# Altium integrated library TI_Logic_Flip-Flop,Latch,Register.IntLib: 2598 symbols (part 97 of 122)
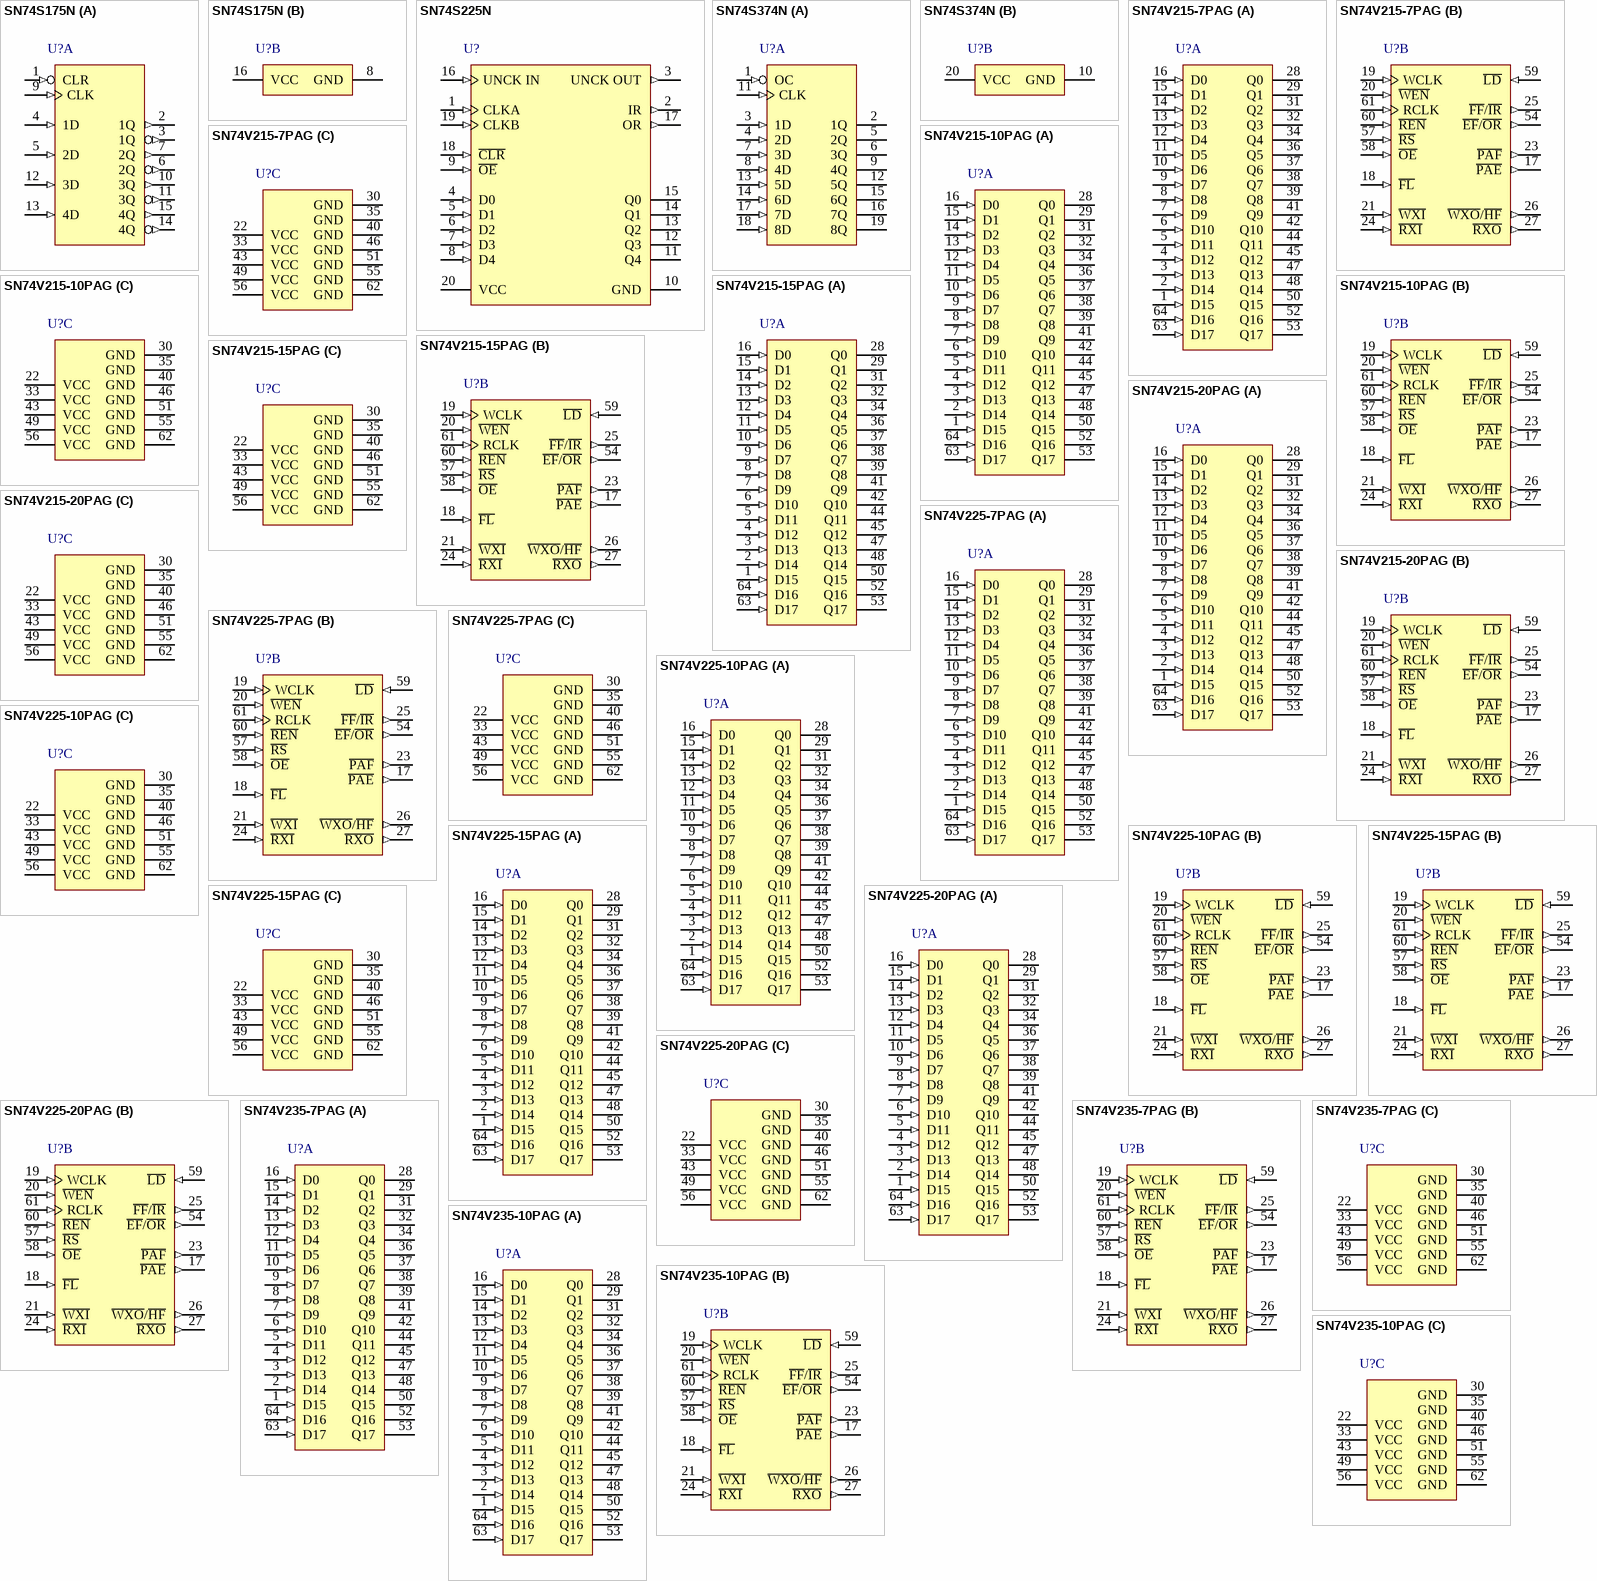
[diagram p235: symbols SN74S175N to SN74V235-10PAG]

## SN74V225-20PAG
designator U?
1024 x 18 Synchronous FIFO Memory, PAG0064A, JEDEC TRAY (10+1); Generic Part Number: SN74V225; Manufacturer: Texas Instruments; PartNumber: SN74V225-20PAG; Vcc range(V): 3.0 to 3.6; Fmax(MHz): 133; Voltage Nodes(V): 3.3; Sync/Async: S; Rating: Catalog; Output Drive(mA): -0.25; DatasheetVersion: SCAS636E; PackageReference: PAG0064A; Depth: 1024; Width: 18; Operating Temperature Range(C): 0 to 70; Code_JEDEC: MS-026; ComponentLink1Description: Manufacturer URL; ComponentLink1URL: http://www.ti.com/; ComponentLink2Description: Datasheet; ComponentLink2URL: http://www.ti.com/lit/ds/symlink/sn74v225.pdf; ComponentLink3Description: Package Specification; ComponentLink3URL: http://www.ti.com/lit/ml/mtqf006a/mtqf006a.pdf
footprint PAG0064A_N (QFP, 64-Leads, Body 10x10mm, Pitch 0.5mm, IPC Medium Density)
footprint PAG0064A_M (QFP, 64-Leads, Body 10x10mm, Pitch 0.5mm, IPC Low Density)
footprint PAG0064A_L (QFP, 64-Leads, Body 10x10mm, Pitch 0.5mm, IPC High Density)
part A pins: 1 D15 (in) "Data inputs. Data inputs for an 18-bit bus.", 2 D14 (in) "Data inputs. Data inputs for an 18-bit bus.", 3 D13 (in) "Data inputs. Data inputs for an 18-bit bus.", 4 D12 (in) "Data inputs. Data inputs for an 18-bit bus.", 5 D11 (in) "Data inputs. Data inputs for an 18-bit bus.", 6 D10 (in) "Data inputs. Data inputs for an 18-bit bus.", 7 D9 (in) "Data inputs. Data inputs for an 18-bit bus.", 8 D8 (in) "Data inputs. Data inputs for an 18-bit bus.", 9 D7 (in) "Data inputs. Data inputs for an 18-bit bus.", 10 D6 (in) "Data inputs. Data inputs for an 18-bit bus.", 11 D5 (in) "Data inputs. Data inputs for an 18-bit bus.", 12 D4 (in) "Data inputs. Data inputs for an 18-bit bus.", 13 D3 (in) "Data inputs. Data inputs for an 18-bit bus.", 14 D2 (in) "Data inputs. Data inputs for an 18-bit bus.", 15 D1 (in) "Data inputs. Data inputs for an 18-bit bus.", 16 D0 (in) "Data inputs. Data inputs for an 18-bit bus.", 28 Q0 (hiz) "Data outputs. Data outputs for an 18-bit bus.", 29 Q1 (hiz) "Data outputs. Data outputs for an 18-bit bus.", 31 Q2 (hiz) "Data outputs. Data outputs for an 18-bit bus.", 32 Q3 (hiz) "Data outputs. Data outputs for an 18-bit bus.", 34 Q4 (hiz) "Data outputs. Data outputs for an 18-bit bus.", 36 Q5 (hiz) "Data outputs. Data outputs for an 18-bit bus.", 37 Q6 (hiz) "Data outputs. Data outputs for an 18-bit bus.", 38 Q7 (hiz) "Data outputs. Data outputs for an 18-bit bus.", 39 Q8 (hiz) "Data outputs. Data outputs for an 18-bit bus.", 41 Q9 (hiz) "Data outputs. Data outputs for an 18-bit bus.", 42 Q10 (hiz) "Data outputs. Data outputs for an 18-bit bus.", 44 Q11 (hiz) "Data outputs. Data outputs for an 18-bit bus.", 45 Q12 (hiz) "Data outputs. Data outputs for an 18-bit bus.", 47 Q13 (hiz) "Data outputs. Data outputs for an 18-bit bus.", 48 Q14 (hiz) "Data outputs. Data outputs for an 18-bit bus.", 50 Q15 (hiz) "Data outputs. Data outputs for an 18-bit bus.", 52 Q16 (hiz) "Data outputs. Data outputs for an 18-bit bus.", 53 Q17 (hiz) "Data outputs. Data outputs for an 18-bit bus.", 63 D17 (in) "Data inputs. Data inputs for an 18-bit bus.", 64 D16 (in) "Data inputs. Data inputs for an 18-bit bus."
part B pins: 17 ~{PAE} (out) "Programable almost-empty flag. When P\A\E\ is low, the FIFO is almost empty, based on the offset programmed into the FIFO. The default offset at reset is 63 from empty for SN74V215, and 127 from empty for SN74V225, SN74V235, (See Datasheet)", 18 ~{FL} (in) "Mode selection. In the single-device or width-expansion configuration, F\L\, together with W\X\I\ and R\X\I\, determines if the mode is standard mode or first-word fall-through (FWFT) mode, as well as whether the (See Datasheet)", 19 WCLK (in) "Write clock. When W\E\N\ is low, data is written into the FIFO on a low-to-high transition of WCLK if the FIFO is not full.", 20 ~{WEN} (in) "Write enable. When W\E\N\ is low, data is written into the FIFO on every low-to-high transition of WCLK. When W\E\N\ is high, the FIFO holds the previous data. Data is not written into the FIFO if F\F\ is low.", 21 ~{WXI} (in) "Width expansion. In the single-device or width-expansion configuration, W\X\I\, together with F\L\ and R\X\I\, determines if the mode is standard mode or FWFT mode, as well as whether the P\A\E\/P\A\F\ flags are synchronous (See Datasheet)", 23 ~{PAF} (out) "Programable almost-full flag. When P\A\F\ is low, the FIFO is almost full, based on the offset programmed into the FIFO. The default offset at reset is 63 from full for SN74V215, and 127 from full for SN74V225, SN74V235, and (See Datasheet)", 24 ~{RXI} (in) "Read expansion. In the single-device or width-expansion configuration, R\X\I\, together with F\L\ and W\X\I\, determines if the mode is standard mode or FWFT mode, as well as whether the P\A\E\/P\A\F\ flags are synchronous (See Datasheet)", 25 ~{FF}/~{IR} (out) "Memory-full/space-available flag. In the standard mode, the F\F\ function is selected. F\F\ indicates whether the FIFO memory is full. In the FWFT mode, the I\R\ function is selected. I\R\ indicates whether there is space (See Datasheet)", 26 ~{WXO}/~{HF} (out) "Half-full flag. In the single-device or width-expansion configuration, the device is more than half full when H\F\ is low. In the depth-expansion configuration, a pulse is sent from W\X\O\ to W\X\I\ of the next device when (See Datasheet)", 27 ~{RXO} (out) "Last-location-read flag. In the depth-expansion configuration, a pulse is sent from R\X\O\ to R\X\I\ of the next device when the last location in the FIFO is read.", 54 ~{EF}/~{OR} (out) "Memory-empty/valid-data-available flag. In the standard mode, the E\F\ function is selected. E\F\ indicates whether the FIFO memory is empty. In FWFT mode, the O\R\ function is selected. O\R\ indicates whether there is valid (See Datasheet)", 57 ~{RS} (in) "Reset. When R\S\ is set low, internal read and write pointers are set to the first location of the RAM array, F\F\ and P\A\F\ go high, and P\A\E\ and E\F\ go low. A reset is required before an initial write after power up", 58 ~{OE} (in) "Output enable. When O\E\ is low, the data output bus is active. If O\E\ is high, the output data bus is in the high-impedance state.", 59 ~{LD} (in) "Read/write control. When L\D\ is low, data on the inputs D0-D11 is written to the offset and depth registers on the low-to-high transition of the WCLK, when W\E\N\ is low. When L\D\ is low, data on the outputs Q0-Q11 is read (See Datasheet)", 60 ~{REN} (in) "Read enable. When R\E\N\ is low, data is read from the FIFO on every low-to-high transition of RCLK. When R\E\N\ is high, the output register holds the previous data. Data is not read from the FIFO if E\F\ is low.", 61 RCLK (in) "Read clock. When R\E\N\ is low, data is read from the FIFO on a low-to-high transition of RCLK, if the FIFO is not empty"
part C pins: 22 VCC (power) "Supply voltage. +3.3-V power-supply pins.", 30 GND (power) "Ground", 33 VCC (power) "Supply voltage. +3.3-V power-supply pins.", 35 GND (power) "Ground", 40 GND (power) "Ground", 43 VCC (power) "Supply voltage. +3.3-V power-supply pins.", 46 GND (power) "Ground", 49 VCC (power) "Supply voltage. +3.3-V power-supply pins.", 51 GND (power) "Ground", 55 GND (power) "Ground", 56 VCC (power) "Supply voltage. +3.3-V power-supply pins.", 62 GND (power) "Ground"

## SN74V235-7PAG
designator U?
2048 x 18 Synchronous FIFO Memory, PAG0064A, JEDEC TRAY (10+1); Generic Part Number: SN74V235; Manufacturer: Texas Instruments; PartNumber: SN74V235-7PAG; Vcc range(V): 3.0 to 3.6; Fmax(MHz): 133; Voltage Nodes(V): 3.3; Sync/Async: S; Rating: Catalog; Output Drive(mA): -0.25; DatasheetVersion: SCAS636E; PackageReference: PAG0064A; Depth: 2048; Width: 18; Operating Temperature Range(C): 0 to 70; Code_JEDEC: MS-026; ComponentLink1Description: Manufacturer URL; ComponentLink1URL: http://www.ti.com/; ComponentLink2Description: Datasheet; ComponentLink2URL: http://www.ti.com/lit/ds/symlink/sn74v235.pdf; ComponentLink3Description: Package Specification; ComponentLink3URL: http://www.ti.com/lit/ml/mtqf006a/mtqf006a.pdf
footprint PAG0064A_N (QFP, 64-Leads, Body 10x10mm, Pitch 0.5mm, IPC Medium Density)
footprint PAG0064A_M (QFP, 64-Leads, Body 10x10mm, Pitch 0.5mm, IPC Low Density)
footprint PAG0064A_L (QFP, 64-Leads, Body 10x10mm, Pitch 0.5mm, IPC High Density)
part A pins: 1 D15 (in) "Data inputs. Data inputs for an 18-bit bus.", 2 D14 (in) "Data inputs. Data inputs for an 18-bit bus.", 3 D13 (in) "Data inputs. Data inputs for an 18-bit bus.", 4 D12 (in) "Data inputs. Data inputs for an 18-bit bus.", 5 D11 (in) "Data inputs. Data inputs for an 18-bit bus.", 6 D10 (in) "Data inputs. Data inputs for an 18-bit bus.", 7 D9 (in) "Data inputs. Data inputs for an 18-bit bus.", 8 D8 (in) "Data inputs. Data inputs for an 18-bit bus.", 9 D7 (in) "Data inputs. Data inputs for an 18-bit bus.", 10 D6 (in) "Data inputs. Data inputs for an 18-bit bus.", 11 D5 (in) "Data inputs. Data inputs for an 18-bit bus.", 12 D4 (in) "Data inputs. Data inputs for an 18-bit bus.", 13 D3 (in) "Data inputs. Data inputs for an 18-bit bus.", 14 D2 (in) "Data inputs. Data inputs for an 18-bit bus.", 15 D1 (in) "Data inputs. Data inputs for an 18-bit bus.", 16 D0 (in) "Data inputs. Data inputs for an 18-bit bus.", 28 Q0 (hiz) "Data outputs. Data outputs for an 18-bit bus.", 29 Q1 (hiz) "Data outputs. Data outputs for an 18-bit bus.", 31 Q2 (hiz) "Data outputs. Data outputs for an 18-bit bus.", 32 Q3 (hiz) "Data outputs. Data outputs for an 18-bit bus.", 34 Q4 (hiz) "Data outputs. Data outputs for an 18-bit bus.", 36 Q5 (hiz) "Data outputs. Data outputs for an 18-bit bus.", 37 Q6 (hiz) "Data outputs. Data outputs for an 18-bit bus.", 38 Q7 (hiz) "Data outputs. Data outputs for an 18-bit bus.", 39 Q8 (hiz) "Data outputs. Data outputs for an 18-bit bus.", 41 Q9 (hiz) "Data outputs. Data outputs for an 18-bit bus.", 42 Q10 (hiz) "Data outputs. Data outputs for an 18-bit bus.", 44 Q11 (hiz) "Data outputs. Data outputs for an 18-bit bus.", 45 Q12 (hiz) "Data outputs. Data outputs for an 18-bit bus.", 47 Q13 (hiz) "Data outputs. Data outputs for an 18-bit bus.", 48 Q14 (hiz) "Data outputs. Data outputs for an 18-bit bus.", 50 Q15 (hiz) "Data outputs. Data outputs for an 18-bit bus.", 52 Q16 (hiz) "Data outputs. Data outputs for an 18-bit bus.", 53 Q17 (hiz) "Data outputs. Data outputs for an 18-bit bus.", 63 D17 (in) "Data inputs. Data inputs for an 18-bit bus.", 64 D16 (in) "Data inputs. Data inputs for an 18-bit bus."
part B pins: 17 ~{PAE} (out) "Programable almost-empty flag. When P\A\E\ is low, the FIFO is almost empty, based on the offset programmed into the FIFO. The default offset at reset is 63 from empty for SN74V215, and 127 from empty for SN74V225, SN74V235, (See Datasheet)", 18 ~{FL} (in) "Mode selection. In the single-device or width-expansion configuration, F\L\, together with W\X\I\ and R\X\I\, determines if the mode is standard mode or first-word fall-through (FWFT) mode, as well as whether the (See Datasheet)", 19 WCLK (in) "Write clock. When W\E\N\ is low, data is written into the FIFO on a low-to-high transition of WCLK if the FIFO is not full.", 20 ~{WEN} (in) "Write enable. When W\E\N\ is low, data is written into the FIFO on every low-to-high transition of WCLK. When W\E\N\ is high, the FIFO holds the previous data. Data is not written into the FIFO if F\F\ is low.", 21 ~{WXI} (in) "Width expansion. In the single-device or width-expansion configuration, W\X\I\, together with F\L\ and R\X\I\, determines if the mode is standard mode or FWFT mode, as well as whether the P\A\E\/P\A\F\ flags are synchronous (See Datasheet)", 23 ~{PAF} (out) "Programable almost-full flag. When P\A\F\ is low, the FIFO is almost full, based on the offset programmed into the FIFO. The default offset at reset is 63 from full for SN74V215, and 127 from full for SN74V225, SN74V235, and (See Datasheet)", 24 ~{RXI} (in) "Read expansion. In the single-device or width-expansion configuration, R\X\I\, together with F\L\ and W\X\I\, determines if the mode is standard mode or FWFT mode, as well as whether the P\A\E\/P\A\F\ flags are synchronous (See Datasheet)", 25 ~{FF}/~{IR} (out) "Memory-full/space-available flag. In the standard mode, the F\F\ function is selected. F\F\ indicates whether the FIFO memory is full. In the FWFT mode, the I\R\ function is selected. I\R\ indicates whether there is space (See Datasheet)", 26 ~{WXO}/~{HF} (out) "Half-full flag. In the single-device or width-expansion configuration, the device is more than half full when H\F\ is low. In the depth-expansion configuration, a pulse is sent from W\X\O\ to W\X\I\ of the next device when (See Datasheet)", 27 ~{RXO} (out) "Last-location-read flag. In the depth-expansion configuration, a pulse is sent from R\X\O\ to R\X\I\ of the next device when the last location in the FIFO is read.", 54 ~{EF}/~{OR} (out) "Memory-empty/valid-data-available flag. In the standard mode, the E\F\ function is selected. E\F\ indicates whether the FIFO memory is empty. In FWFT mode, the O\R\ function is selected. O\R\ indicates whether there is valid (See Datasheet)", 57 ~{RS} (in) "Reset. When R\S\ is set low, internal read and write pointers are set to the first location of the RAM array, F\F\ and P\A\F\ go high, and P\A\E\ and E\F\ go low. A reset is required before an initial write after power up", 58 ~{OE} (in) "Output enable. When O\E\ is low, the data output bus is active. If O\E\ is high, the output data bus is in the high-impedance state.", 59 ~{LD} (in) "Read/write control. When L\D\ is low, data on the inputs D0-D11 is written to the offset and depth registers on the low-to-high transition of the WCLK, when W\E\N\ is low. When L\D\ is low, data on the outputs Q0-Q11 is read (See Datasheet)", 60 ~{REN} (in) "Read enable. When R\E\N\ is low, data is read from the FIFO on every low-to-high transition of RCLK. When R\E\N\ is high, the output register holds the previous data. Data is not read from the FIFO if E\F\ is low.", 61 RCLK (in) "Read clock. When R\E\N\ is low, data is read from the FIFO on a low-to-high transition of RCLK, if the FIFO is not empty"
part C pins: 22 VCC (power) "Supply voltage. +3.3-V power-supply pins.", 30 GND (power) "Ground", 33 VCC (power) "Supply voltage. +3.3-V power-supply pins.", 35 GND (power) "Ground", 40 GND (power) "Ground", 43 VCC (power) "Supply voltage. +3.3-V power-supply pins.", 46 GND (power) "Ground", 49 VCC (power) "Supply voltage. +3.3-V power-supply pins.", 51 GND (power) "Ground", 55 GND (power) "Ground", 56 VCC (power) "Supply voltage. +3.3-V power-supply pins.", 62 GND (power) "Ground"

## SN74V235-10PAG
designator U?
2048 x 18 Synchronous FIFO Memory, PAG0064A, JEDEC TRAY (10+1); Generic Part Number: SN74V235; Manufacturer: Texas Instruments; PartNumber: SN74V235-10PAG; Vcc range(V): 3.0 to 3.6; Fmax(MHz): 133; Voltage Nodes(V): 3.3; Sync/Async: S; Rating: Catalog; Output Drive(mA): -0.25; DatasheetVersion: SCAS636E; PackageReference: PAG0064A; Depth: 2048; Width: 18; Operating Temperature Range(C): 0 to 70; Code_JEDEC: MS-026; ComponentLink1Description: Manufacturer URL; ComponentLink1URL: http://www.ti.com/; ComponentLink2Description: Datasheet; ComponentLink2URL: http://www.ti.com/lit/ds/symlink/sn74v235.pdf; ComponentLink3Description: Package Specification; ComponentLink3URL: http://www.ti.com/lit/ml/mtqf006a/mtqf006a.pdf
footprint PAG0064A_N (QFP, 64-Leads, Body 10x10mm, Pitch 0.5mm, IPC Medium Density)
footprint PAG0064A_M (QFP, 64-Leads, Body 10x10mm, Pitch 0.5mm, IPC Low Density)
footprint PAG0064A_L (QFP, 64-Leads, Body 10x10mm, Pitch 0.5mm, IPC High Density)
part A pins: 1 D15 (in) "Data inputs. Data inputs for an 18-bit bus.", 2 D14 (in) "Data inputs. Data inputs for an 18-bit bus.", 3 D13 (in) "Data inputs. Data inputs for an 18-bit bus.", 4 D12 (in) "Data inputs. Data inputs for an 18-bit bus.", 5 D11 (in) "Data inputs. Data inputs for an 18-bit bus.", 6 D10 (in) "Data inputs. Data inputs for an 18-bit bus.", 7 D9 (in) "Data inputs. Data inputs for an 18-bit bus.", 8 D8 (in) "Data inputs. Data inputs for an 18-bit bus.", 9 D7 (in) "Data inputs. Data inputs for an 18-bit bus.", 10 D6 (in) "Data inputs. Data inputs for an 18-bit bus.", 11 D5 (in) "Data inputs. Data inputs for an 18-bit bus.", 12 D4 (in) "Data inputs. Data inputs for an 18-bit bus.", 13 D3 (in) "Data inputs. Data inputs for an 18-bit bus.", 14 D2 (in) "Data inputs. Data inputs for an 18-bit bus.", 15 D1 (in) "Data inputs. Data inputs for an 18-bit bus.", 16 D0 (in) "Data inputs. Data inputs for an 18-bit bus.", 28 Q0 (hiz) "Data outputs. Data outputs for an 18-bit bus.", 29 Q1 (hiz) "Data outputs. Data outputs for an 18-bit bus.", 31 Q2 (hiz) "Data outputs. Data outputs for an 18-bit bus.", 32 Q3 (hiz) "Data outputs. Data outputs for an 18-bit bus.", 34 Q4 (hiz) "Data outputs. Data outputs for an 18-bit bus.", 36 Q5 (hiz) "Data outputs. Data outputs for an 18-bit bus.", 37 Q6 (hiz) "Data outputs. Data outputs for an 18-bit bus.", 38 Q7 (hiz) "Data outputs. Data outputs for an 18-bit bus.", 39 Q8 (hiz) "Data outputs. Data outputs for an 18-bit bus.", 41 Q9 (hiz) "Data outputs. Data outputs for an 18-bit bus.", 42 Q10 (hiz) "Data outputs. Data outputs for an 18-bit bus.", 44 Q11 (hiz) "Data outputs. Data outputs for an 18-bit bus.", 45 Q12 (hiz) "Data outputs. Data outputs for an 18-bit bus.", 47 Q13 (hiz) "Data outputs. Data outputs for an 18-bit bus.", 48 Q14 (hiz) "Data outputs. Data outputs for an 18-bit bus.", 50 Q15 (hiz) "Data outputs. Data outputs for an 18-bit bus.", 52 Q16 (hiz) "Data outputs. Data outputs for an 18-bit bus.", 53 Q17 (hiz) "Data outputs. Data outputs for an 18-bit bus.", 63 D17 (in) "Data inputs. Data inputs for an 18-bit bus.", 64 D16 (in) "Data inputs. Data inputs for an 18-bit bus."
part B pins: 17 ~{PAE} (out) "Programable almost-empty flag. When P\A\E\ is low, the FIFO is almost empty, based on the offset programmed into the FIFO. The default offset at reset is 63 from empty for SN74V215, and 127 from empty for SN74V225, SN74V235, (See Datasheet)", 18 ~{FL} (in) "Mode selection. In the single-device or width-expansion configuration, F\L\, together with W\X\I\ and R\X\I\, determines if the mode is standard mode or first-word fall-through (FWFT) mode, as well as whether the (See Datasheet)", 19 WCLK (in) "Write clock. When W\E\N\ is low, data is written into the FIFO on a low-to-high transition of WCLK if the FIFO is not full.", 20 ~{WEN} (in) "Write enable. When W\E\N\ is low, data is written into the FIFO on every low-to-high transition of WCLK. When W\E\N\ is high, the FIFO holds the previous data. Data is not written into the FIFO if F\F\ is low.", 21 ~{WXI} (in) "Width expansion. In the single-device or width-expansion configuration, W\X\I\, together with F\L\ and R\X\I\, determines if the mode is standard mode or FWFT mode, as well as whether the P\A\E\/P\A\F\ flags are synchronous (See Datasheet)", 23 ~{PAF} (out) "Programable almost-full flag. When P\A\F\ is low, the FIFO is almost full, based on the offset programmed into the FIFO. The default offset at reset is 63 from full for SN74V215, and 127 from full for SN74V225, SN74V235, and (See Datasheet)", 24 ~{RXI} (in) "Read expansion. In the single-device or width-expansion configuration, R\X\I\, together with F\L\ and W\X\I\, determines if the mode is standard mode or FWFT mode, as well as whether the P\A\E\/P\A\F\ flags are synchronous (See Datasheet)", 25 ~{FF}/~{IR} (out) "Memory-full/space-available flag. In the standard mode, the F\F\ function is selected. F\F\ indicates whether the FIFO memory is full. In the FWFT mode, the I\R\ function is selected. I\R\ indicates whether there is space (See Datasheet)", 26 ~{WXO}/~{HF} (out) "Half-full flag. In the single-device or width-expansion configuration, the device is more than half full when H\F\ is low. In the depth-expansion configuration, a pulse is sent from W\X\O\ to W\X\I\ of the next device when (See Datasheet)", 27 ~{RXO} (out) "Last-location-read flag. In the depth-expansion configuration, a pulse is sent from R\X\O\ to R\X\I\ of the next device when the last location in the FIFO is read.", 54 ~{EF}/~{OR} (out) "Memory-empty/valid-data-available flag. In the standard mode, the E\F\ function is selected. E\F\ indicates whether the FIFO memory is empty. In FWFT mode, the O\R\ function is selected. O\R\ indicates whether there is valid (See Datasheet)", 57 ~{RS} (in) "Reset. When R\S\ is set low, internal read and write pointers are set to the first location of the RAM array, F\F\ and P\A\F\ go high, and P\A\E\ and E\F\ go low. A reset is required before an initial write after power up", 58 ~{OE} (in) "Output enable. When O\E\ is low, the data output bus is active. If O\E\ is high, the output data bus is in the high-impedance state.", 59 ~{LD} (in) "Read/write control. When L\D\ is low, data on the inputs D0-D11 is written to the offset and depth registers on the low-to-high transition of the WCLK, when W\E\N\ is low. When L\D\ is low, data on the outputs Q0-Q11 is read (See Datasheet)", 60 ~{REN} (in) "Read enable. When R\E\N\ is low, data is read from the FIFO on every low-to-high transition of RCLK. When R\E\N\ is high, the output register holds the previous data. Data is not read from the FIFO if E\F\ is low.", 61 RCLK (in) "Read clock. When R\E\N\ is low, data is read from the FIFO on a low-to-high transition of RCLK, if the FIFO is not empty"
part C pins: 22 VCC (power) "Supply voltage. +3.3-V power-supply pins.", 30 GND (power) "Ground", 33 VCC (power) "Supply voltage. +3.3-V power-supply pins.", 35 GND (power) "Ground", 40 GND (power) "Ground", 43 VCC (power) "Supply voltage. +3.3-V power-supply pins.", 46 GND (power) "Ground", 49 VCC (power) "Supply voltage. +3.3-V power-supply pins.", 51 GND (power) "Ground", 55 GND (power) "Ground", 56 VCC (power) "Supply voltage. +3.3-V power-supply pins.", 62 GND (power) "Ground"

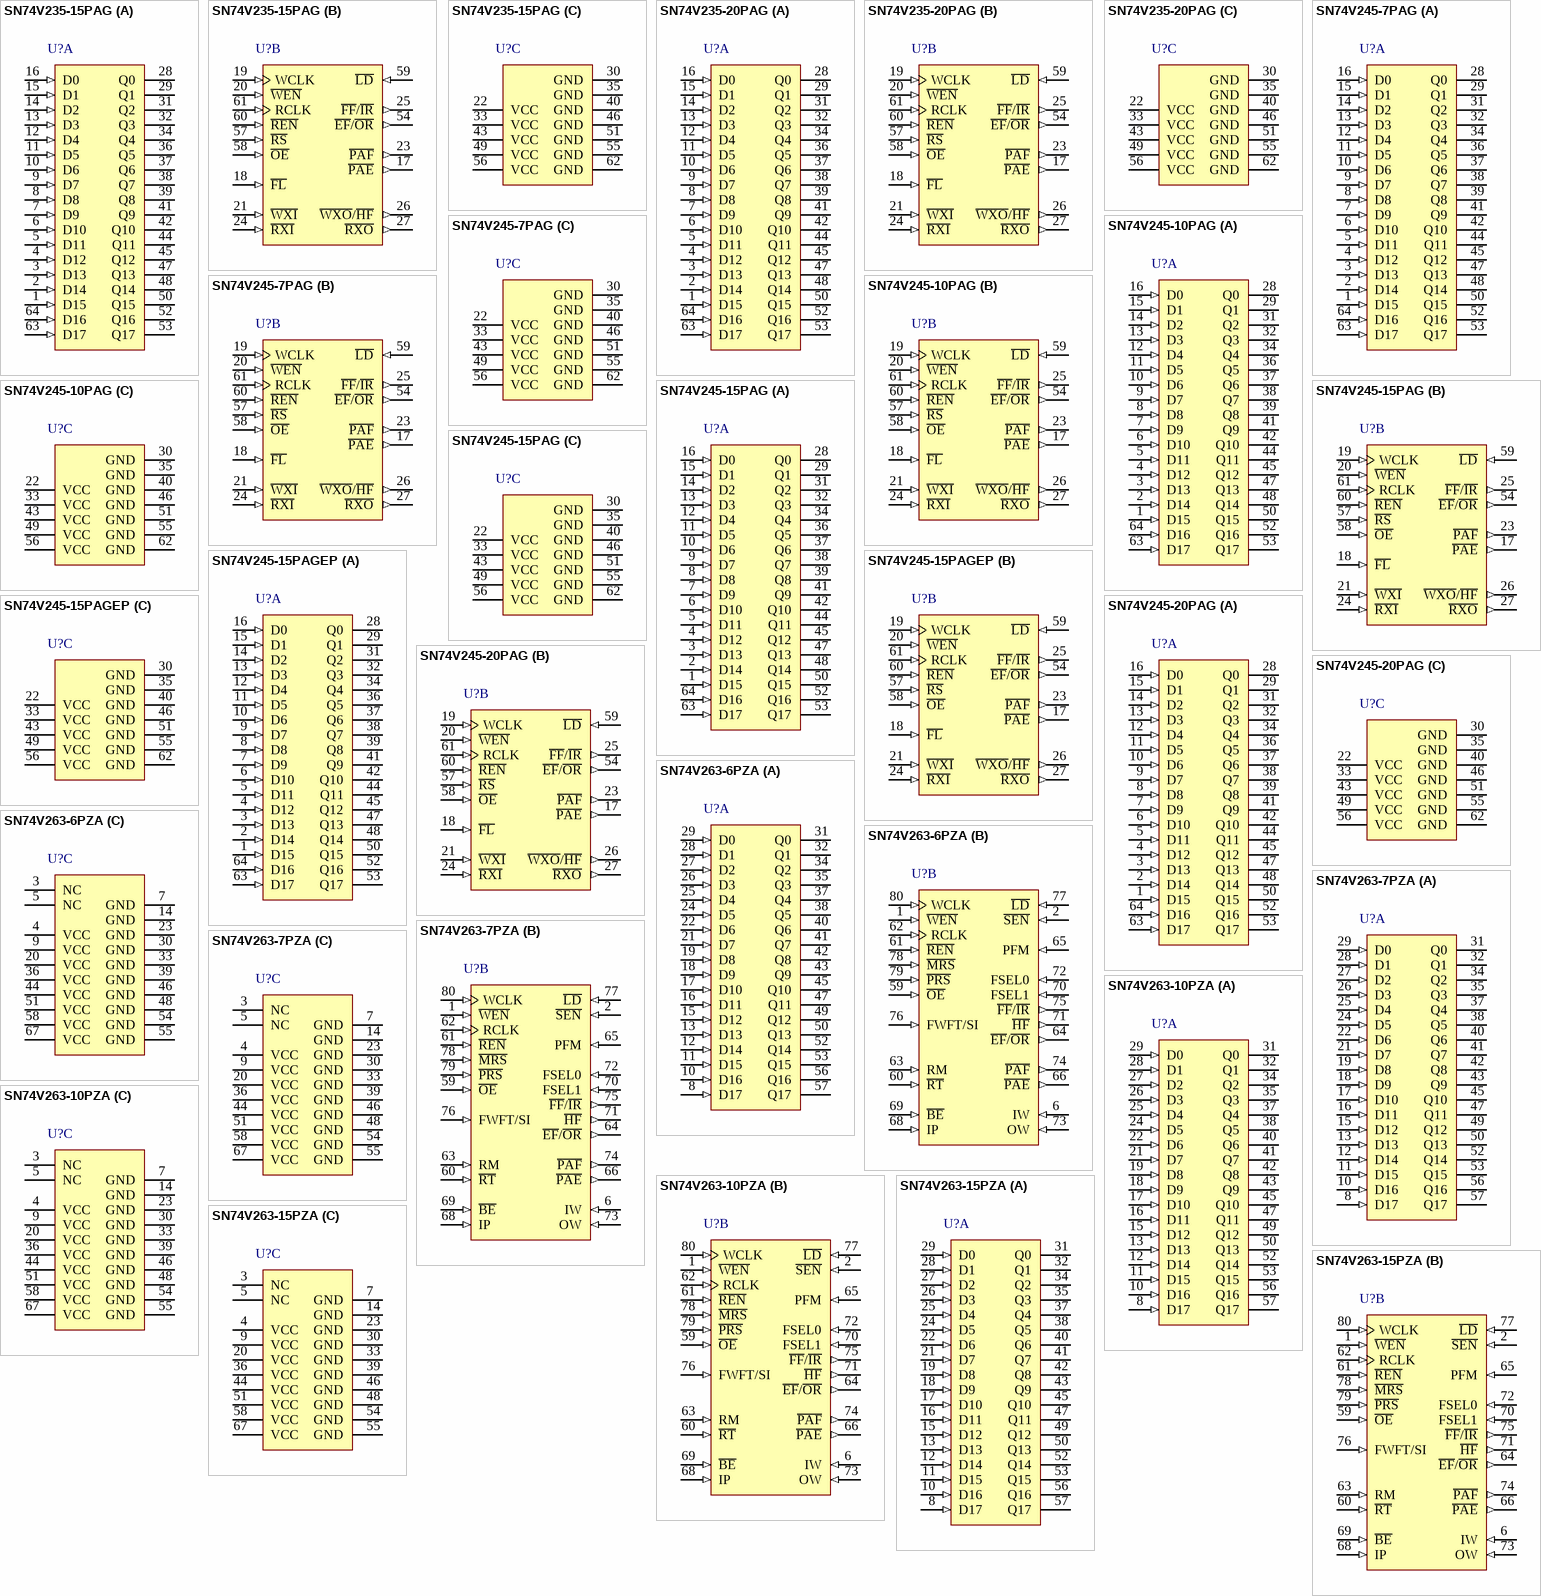
[diagram p115: symbols SN74V235-15PAG to SN74V263-15PZA]

## SN74V235-15PAG
designator U?
2048 x 18 Synchronous FIFO Memory, PAG0064A, JEDEC TRAY (10+1); Generic Part Number: SN74V235; Manufacturer: Texas Instruments; PartNumber: SN74V235-15PAG; Vcc range(V): 3.0 to 3.6; Fmax(MHz): 133; Voltage Nodes(V): 3.3; Sync/Async: S; Rating: Catalog; Output Drive(mA): -0.25; DatasheetVersion: SCAS636E; PackageReference: PAG0064A; Depth: 2048; Width: 18; Operating Temperature Range(C): 0 to 70; Code_JEDEC: MS-026; ComponentLink1Description: Manufacturer URL; ComponentLink1URL: http://www.ti.com/; ComponentLink2Description: Datasheet; ComponentLink2URL: http://www.ti.com/lit/ds/symlink/sn74v235.pdf; ComponentLink3Description: Package Specification; ComponentLink3URL: http://www.ti.com/lit/ml/mtqf006a/mtqf006a.pdf
footprint PAG0064A_N (QFP, 64-Leads, Body 10x10mm, Pitch 0.5mm, IPC Medium Density)
footprint PAG0064A_M (QFP, 64-Leads, Body 10x10mm, Pitch 0.5mm, IPC Low Density)
footprint PAG0064A_L (QFP, 64-Leads, Body 10x10mm, Pitch 0.5mm, IPC High Density)
part A pins: 1 D15 (in) "Data inputs. Data inputs for an 18-bit bus.", 2 D14 (in) "Data inputs. Data inputs for an 18-bit bus.", 3 D13 (in) "Data inputs. Data inputs for an 18-bit bus.", 4 D12 (in) "Data inputs. Data inputs for an 18-bit bus.", 5 D11 (in) "Data inputs. Data inputs for an 18-bit bus.", 6 D10 (in) "Data inputs. Data inputs for an 18-bit bus.", 7 D9 (in) "Data inputs. Data inputs for an 18-bit bus.", 8 D8 (in) "Data inputs. Data inputs for an 18-bit bus.", 9 D7 (in) "Data inputs. Data inputs for an 18-bit bus.", 10 D6 (in) "Data inputs. Data inputs for an 18-bit bus.", 11 D5 (in) "Data inputs. Data inputs for an 18-bit bus.", 12 D4 (in) "Data inputs. Data inputs for an 18-bit bus.", 13 D3 (in) "Data inputs. Data inputs for an 18-bit bus.", 14 D2 (in) "Data inputs. Data inputs for an 18-bit bus.", 15 D1 (in) "Data inputs. Data inputs for an 18-bit bus.", 16 D0 (in) "Data inputs. Data inputs for an 18-bit bus.", 28 Q0 (hiz) "Data outputs. Data outputs for an 18-bit bus.", 29 Q1 (hiz) "Data outputs. Data outputs for an 18-bit bus.", 31 Q2 (hiz) "Data outputs. Data outputs for an 18-bit bus.", 32 Q3 (hiz) "Data outputs. Data outputs for an 18-bit bus.", 34 Q4 (hiz) "Data outputs. Data outputs for an 18-bit bus.", 36 Q5 (hiz) "Data outputs. Data outputs for an 18-bit bus.", 37 Q6 (hiz) "Data outputs. Data outputs for an 18-bit bus.", 38 Q7 (hiz) "Data outputs. Data outputs for an 18-bit bus.", 39 Q8 (hiz) "Data outputs. Data outputs for an 18-bit bus.", 41 Q9 (hiz) "Data outputs. Data outputs for an 18-bit bus.", 42 Q10 (hiz) "Data outputs. Data outputs for an 18-bit bus.", 44 Q11 (hiz) "Data outputs. Data outputs for an 18-bit bus.", 45 Q12 (hiz) "Data outputs. Data outputs for an 18-bit bus.", 47 Q13 (hiz) "Data outputs. Data outputs for an 18-bit bus.", 48 Q14 (hiz) "Data outputs. Data outputs for an 18-bit bus.", 50 Q15 (hiz) "Data outputs. Data outputs for an 18-bit bus.", 52 Q16 (hiz) "Data outputs. Data outputs for an 18-bit bus.", 53 Q17 (hiz) "Data outputs. Data outputs for an 18-bit bus.", 63 D17 (in) "Data inputs. Data inputs for an 18-bit bus.", 64 D16 (in) "Data inputs. Data inputs for an 18-bit bus."
part B pins: 17 ~{PAE} (out) "Programable almost-empty flag. When P\A\E\ is low, the FIFO is almost empty, based on the offset programmed into the FIFO. The default offset at reset is 63 from empty for SN74V215, and 127 from empty for SN74V225, SN74V235, (See Datasheet)", 18 ~{FL} (in) "Mode selection. In the single-device or width-expansion configuration, F\L\, together with W\X\I\ and R\X\I\, determines if the mode is standard mode or first-word fall-through (FWFT) mode, as well as whether the (See Datasheet)", 19 WCLK (in) "Write clock. When W\E\N\ is low, data is written into the FIFO on a low-to-high transition of WCLK if the FIFO is not full.", 20 ~{WEN} (in) "Write enable. When W\E\N\ is low, data is written into the FIFO on every low-to-high transition of WCLK. When W\E\N\ is high, the FIFO holds the previous data. Data is not written into the FIFO if F\F\ is low.", 21 ~{WXI} (in) "Width expansion. In the single-device or width-expansion configuration, W\X\I\, together with F\L\ and R\X\I\, determines if the mode is standard mode or FWFT mode, as well as whether the P\A\E\/P\A\F\ flags are synchronous (See Datasheet)", 23 ~{PAF} (out) "Programable almost-full flag. When P\A\F\ is low, the FIFO is almost full, based on the offset programmed into the FIFO. The default offset at reset is 63 from full for SN74V215, and 127 from full for SN74V225, SN74V235, and (See Datasheet)", 24 ~{RXI} (in) "Read expansion. In the single-device or width-expansion configuration, R\X\I\, together with F\L\ and W\X\I\, determines if the mode is standard mode or FWFT mode, as well as whether the P\A\E\/P\A\F\ flags are synchronous (See Datasheet)", 25 ~{FF}/~{IR} (out) "Memory-full/space-available flag. In the standard mode, the F\F\ function is selected. F\F\ indicates whether the FIFO memory is full. In the FWFT mode, the I\R\ function is selected. I\R\ indicates whether there is space (See Datasheet)", 26 ~{WXO}/~{HF} (out) "Half-full flag. In the single-device or width-expansion configuration, the device is more than half full when H\F\ is low. In the depth-expansion configuration, a pulse is sent from W\X\O\ to W\X\I\ of the next device when (See Datasheet)", 27 ~{RXO} (out) "Last-location-read flag. In the depth-expansion configuration, a pulse is sent from R\X\O\ to R\X\I\ of the next device when the last location in the FIFO is read.", 54 ~{EF}/~{OR} (out) "Memory-empty/valid-data-available flag. In the standard mode, the E\F\ function is selected. E\F\ indicates whether the FIFO memory is empty. In FWFT mode, the O\R\ function is selected. O\R\ indicates whether there is valid (See Datasheet)", 57 ~{RS} (in) "Reset. When R\S\ is set low, internal read and write pointers are set to the first location of the RAM array, F\F\ and P\A\F\ go high, and P\A\E\ and E\F\ go low. A reset is required before an initial write after power up", 58 ~{OE} (in) "Output enable. When O\E\ is low, the data output bus is active. If O\E\ is high, the output data bus is in the high-impedance state.", 59 ~{LD} (in) "Read/write control. When L\D\ is low, data on the inputs D0-D11 is written to the offset and depth registers on the low-to-high transition of the WCLK, when W\E\N\ is low. When L\D\ is low, data on the outputs Q0-Q11 is read (See Datasheet)", 60 ~{REN} (in) "Read enable. When R\E\N\ is low, data is read from the FIFO on every low-to-high transition of RCLK. When R\E\N\ is high, the output register holds the previous data. Data is not read from the FIFO if E\F\ is low.", 61 RCLK (in) "Read clock. When R\E\N\ is low, data is read from the FIFO on a low-to-high transition of RCLK, if the FIFO is not empty"
part C pins: 22 VCC (power) "Supply voltage. +3.3-V power-supply pins.", 30 GND (power) "Ground", 33 VCC (power) "Supply voltage. +3.3-V power-supply pins.", 35 GND (power) "Ground", 40 GND (power) "Ground", 43 VCC (power) "Supply voltage. +3.3-V power-supply pins.", 46 GND (power) "Ground", 49 VCC (power) "Supply voltage. +3.3-V power-supply pins.", 51 GND (power) "Ground", 55 GND (power) "Ground", 56 VCC (power) "Supply voltage. +3.3-V power-supply pins.", 62 GND (power) "Ground"

## SN74V235-20PAG
designator U?
2048 x 18 Synchronous FIFO Memory, PAG0064A, JEDEC TRAY (10+1); Generic Part Number: SN74V235; Manufacturer: Texas Instruments; PartNumber: SN74V235-20PAG; Vcc range(V): 3.0 to 3.6; Fmax(MHz): 133; Voltage Nodes(V): 3.3; Sync/Async: S; Rating: Catalog; Output Drive(mA): -0.25; DatasheetVersion: SCAS636E; PackageReference: PAG0064A; Depth: 2048; Width: 18; Operating Temperature Range(C): 0 to 70; Code_JEDEC: MS-026; ComponentLink1Description: Manufacturer URL; ComponentLink1URL: http://www.ti.com/; ComponentLink2Description: Datasheet; ComponentLink2URL: http://www.ti.com/lit/ds/symlink/sn74v235.pdf; ComponentLink3Description: Package Specification; ComponentLink3URL: http://www.ti.com/lit/ml/mtqf006a/mtqf006a.pdf
footprint PAG0064A_N (QFP, 64-Leads, Body 10x10mm, Pitch 0.5mm, IPC Medium Density)
footprint PAG0064A_M (QFP, 64-Leads, Body 10x10mm, Pitch 0.5mm, IPC Low Density)
footprint PAG0064A_L (QFP, 64-Leads, Body 10x10mm, Pitch 0.5mm, IPC High Density)
part A pins: 1 D15 (in) "Data inputs. Data inputs for an 18-bit bus.", 2 D14 (in) "Data inputs. Data inputs for an 18-bit bus.", 3 D13 (in) "Data inputs. Data inputs for an 18-bit bus.", 4 D12 (in) "Data inputs. Data inputs for an 18-bit bus.", 5 D11 (in) "Data inputs. Data inputs for an 18-bit bus.", 6 D10 (in) "Data inputs. Data inputs for an 18-bit bus.", 7 D9 (in) "Data inputs. Data inputs for an 18-bit bus.", 8 D8 (in) "Data inputs. Data inputs for an 18-bit bus.", 9 D7 (in) "Data inputs. Data inputs for an 18-bit bus.", 10 D6 (in) "Data inputs. Data inputs for an 18-bit bus.", 11 D5 (in) "Data inputs. Data inputs for an 18-bit bus.", 12 D4 (in) "Data inputs. Data inputs for an 18-bit bus.", 13 D3 (in) "Data inputs. Data inputs for an 18-bit bus.", 14 D2 (in) "Data inputs. Data inputs for an 18-bit bus.", 15 D1 (in) "Data inputs. Data inputs for an 18-bit bus.", 16 D0 (in) "Data inputs. Data inputs for an 18-bit bus.", 28 Q0 (hiz) "Data outputs. Data outputs for an 18-bit bus.", 29 Q1 (hiz) "Data outputs. Data outputs for an 18-bit bus.", 31 Q2 (hiz) "Data outputs. Data outputs for an 18-bit bus.", 32 Q3 (hiz) "Data outputs. Data outputs for an 18-bit bus.", 34 Q4 (hiz) "Data outputs. Data outputs for an 18-bit bus.", 36 Q5 (hiz) "Data outputs. Data outputs for an 18-bit bus.", 37 Q6 (hiz) "Data outputs. Data outputs for an 18-bit bus.", 38 Q7 (hiz) "Data outputs. Data outputs for an 18-bit bus.", 39 Q8 (hiz) "Data outputs. Data outputs for an 18-bit bus.", 41 Q9 (hiz) "Data outputs. Data outputs for an 18-bit bus.", 42 Q10 (hiz) "Data outputs. Data outputs for an 18-bit bus.", 44 Q11 (hiz) "Data outputs. Data outputs for an 18-bit bus.", 45 Q12 (hiz) "Data outputs. Data outputs for an 18-bit bus.", 47 Q13 (hiz) "Data outputs. Data outputs for an 18-bit bus.", 48 Q14 (hiz) "Data outputs. Data outputs for an 18-bit bus.", 50 Q15 (hiz) "Data outputs. Data outputs for an 18-bit bus.", 52 Q16 (hiz) "Data outputs. Data outputs for an 18-bit bus.", 53 Q17 (hiz) "Data outputs. Data outputs for an 18-bit bus.", 63 D17 (in) "Data inputs. Data inputs for an 18-bit bus.", 64 D16 (in) "Data inputs. Data inputs for an 18-bit bus."
part B pins: 17 ~{PAE} (out) "Programable almost-empty flag. When P\A\E\ is low, the FIFO is almost empty, based on the offset programmed into the FIFO. The default offset at reset is 63 from empty for SN74V215, and 127 from empty for SN74V225, SN74V235, (See Datasheet)", 18 ~{FL} (in) "Mode selection. In the single-device or width-expansion configuration, F\L\, together with W\X\I\ and R\X\I\, determines if the mode is standard mode or first-word fall-through (FWFT) mode, as well as whether the (See Datasheet)", 19 WCLK (in) "Write clock. When W\E\N\ is low, data is written into the FIFO on a low-to-high transition of WCLK if the FIFO is not full.", 20 ~{WEN} (in) "Write enable. When W\E\N\ is low, data is written into the FIFO on every low-to-high transition of WCLK. When W\E\N\ is high, the FIFO holds the previous data. Data is not written into the FIFO if F\F\ is low.", 21 ~{WXI} (in) "Width expansion. In the single-device or width-expansion configuration, W\X\I\, together with F\L\ and R\X\I\, determines if the mode is standard mode or FWFT mode, as well as whether the P\A\E\/P\A\F\ flags are synchronous (See Datasheet)", 23 ~{PAF} (out) "Programable almost-full flag. When P\A\F\ is low, the FIFO is almost full, based on the offset programmed into the FIFO. The default offset at reset is 63 from full for SN74V215, and 127 from full for SN74V225, SN74V235, and (See Datasheet)", 24 ~{RXI} (in) "Read expansion. In the single-device or width-expansion configuration, R\X\I\, together with F\L\ and W\X\I\, determines if the mode is standard mode or FWFT mode, as well as whether the P\A\E\/P\A\F\ flags are synchronous (See Datasheet)", 25 ~{FF}/~{IR} (out) "Memory-full/space-available flag. In the standard mode, the F\F\ function is selected. F\F\ indicates whether the FIFO memory is full. In the FWFT mode, the I\R\ function is selected. I\R\ indicates whether there is space (See Datasheet)", 26 ~{WXO}/~{HF} (out) "Half-full flag. In the single-device or width-expansion configuration, the device is more than half full when H\F\ is low. In the depth-expansion configuration, a pulse is sent from W\X\O\ to W\X\I\ of the next device when (See Datasheet)", 27 ~{RXO} (out) "Last-location-read flag. In the depth-expansion configuration, a pulse is sent from R\X\O\ to R\X\I\ of the next device when the last location in the FIFO is read.", 54 ~{EF}/~{OR} (out) "Memory-empty/valid-data-available flag. In the standard mode, the E\F\ function is selected. E\F\ indicates whether the FIFO memory is empty. In FWFT mode, the O\R\ function is selected. O\R\ indicates whether there is valid (See Datasheet)", 57 ~{RS} (in) "Reset. When R\S\ is set low, internal read and write pointers are set to the first location of the RAM array, F\F\ and P\A\F\ go high, and P\A\E\ and E\F\ go low. A reset is required before an initial write after power up", 58 ~{OE} (in) "Output enable. When O\E\ is low, the data output bus is active. If O\E\ is high, the output data bus is in the high-impedance state.", 59 ~{LD} (in) "Read/write control. When L\D\ is low, data on the inputs D0-D11 is written to the offset and depth registers on the low-to-high transition of the WCLK, when W\E\N\ is low. When L\D\ is low, data on the outputs Q0-Q11 is read (See Datasheet)", 60 ~{REN} (in) "Read enable. When R\E\N\ is low, data is read from the FIFO on every low-to-high transition of RCLK. When R\E\N\ is high, the output register holds the previous data. Data is not read from the FIFO if E\F\ is low.", 61 RCLK (in) "Read clock. When R\E\N\ is low, data is read from the FIFO on a low-to-high transition of RCLK, if the FIFO is not empty"
part C pins: 22 VCC (power) "Supply voltage. +3.3-V power-supply pins.", 30 GND (power) "Ground", 33 VCC (power) "Supply voltage. +3.3-V power-supply pins.", 35 GND (power) "Ground", 40 GND (power) "Ground", 43 VCC (power) "Supply voltage. +3.3-V power-supply pins.", 46 GND (power) "Ground", 49 VCC (power) "Supply voltage. +3.3-V power-supply pins.", 51 GND (power) "Ground", 55 GND (power) "Ground", 56 VCC (power) "Supply voltage. +3.3-V power-supply pins.", 62 GND (power) "Ground"

## SN74V245-7PAG
designator U?
4096 x 18 Synchronous FIFO Memory, PAG0064A, JEDEC TRAY (10+1); Generic Part Number: SN74V245; Manufacturer: Texas Instruments; PartNumber: SN74V245-7PAG; Vcc range(V): 3.0 to 3.6; Fmax(MHz): 133; Voltage Nodes(V): 3.3; Sync/Async: S; Rating: Catalog; Output Drive(mA): -0.25; DatasheetVersion: SCAS636E; PackageReference: PAG0064A; Depth: 4096; Width: 18; Operating Temperature Range(C): 0 to 70; Code_JEDEC: MS-026; ComponentLink1Description: Manufacturer URL; ComponentLink1URL: http://www.ti.com/; ComponentLink2Description: Datasheet; ComponentLink2URL: http://www.ti.com/lit/ds/symlink/sn74v245.pdf; ComponentLink3Description: Package Specification; ComponentLink3URL: http://www.ti.com/lit/ml/mtqf006a/mtqf006a.pdf
footprint PAG0064A_N (QFP, 64-Leads, Body 10x10mm, Pitch 0.5mm, IPC Medium Density)
footprint PAG0064A_M (QFP, 64-Leads, Body 10x10mm, Pitch 0.5mm, IPC Low Density)
footprint PAG0064A_L (QFP, 64-Leads, Body 10x10mm, Pitch 0.5mm, IPC High Density)
part A pins: 1 D15 (in) "Data inputs. Data inputs for an 18-bit bus.", 2 D14 (in) "Data inputs. Data inputs for an 18-bit bus.", 3 D13 (in) "Data inputs. Data inputs for an 18-bit bus.", 4 D12 (in) "Data inputs. Data inputs for an 18-bit bus.", 5 D11 (in) "Data inputs. Data inputs for an 18-bit bus.", 6 D10 (in) "Data inputs. Data inputs for an 18-bit bus.", 7 D9 (in) "Data inputs. Data inputs for an 18-bit bus.", 8 D8 (in) "Data inputs. Data inputs for an 18-bit bus.", 9 D7 (in) "Data inputs. Data inputs for an 18-bit bus.", 10 D6 (in) "Data inputs. Data inputs for an 18-bit bus.", 11 D5 (in) "Data inputs. Data inputs for an 18-bit bus.", 12 D4 (in) "Data inputs. Data inputs for an 18-bit bus.", 13 D3 (in) "Data inputs. Data inputs for an 18-bit bus.", 14 D2 (in) "Data inputs. Data inputs for an 18-bit bus.", 15 D1 (in) "Data inputs. Data inputs for an 18-bit bus.", 16 D0 (in) "Data inputs. Data inputs for an 18-bit bus.", 28 Q0 (hiz) "Data outputs. Data outputs for an 18-bit bus.", 29 Q1 (hiz) "Data outputs. Data outputs for an 18-bit bus.", 31 Q2 (hiz) "Data outputs. Data outputs for an 18-bit bus.", 32 Q3 (hiz) "Data outputs. Data outputs for an 18-bit bus.", 34 Q4 (hiz) "Data outputs. Data outputs for an 18-bit bus.", 36 Q5 (hiz) "Data outputs. Data outputs for an 18-bit bus.", 37 Q6 (hiz) "Data outputs. Data outputs for an 18-bit bus.", 38 Q7 (hiz) "Data outputs. Data outputs for an 18-bit bus.", 39 Q8 (hiz) "Data outputs. Data outputs for an 18-bit bus.", 41 Q9 (hiz) "Data outputs. Data outputs for an 18-bit bus.", 42 Q10 (hiz) "Data outputs. Data outputs for an 18-bit bus.", 44 Q11 (hiz) "Data outputs. Data outputs for an 18-bit bus.", 45 Q12 (hiz) "Data outputs. Data outputs for an 18-bit bus.", 47 Q13 (hiz) "Data outputs. Data outputs for an 18-bit bus.", 48 Q14 (hiz) "Data outputs. Data outputs for an 18-bit bus.", 50 Q15 (hiz) "Data outputs. Data outputs for an 18-bit bus.", 52 Q16 (hiz) "Data outputs. Data outputs for an 18-bit bus.", 53 Q17 (hiz) "Data outputs. Data outputs for an 18-bit bus.", 63 D17 (in) "Data inputs. Data inputs for an 18-bit bus.", 64 D16 (in) "Data inputs. Data inputs for an 18-bit bus."
part B pins: 17 ~{PAE} (out) "Programable almost-empty flag. When P\A\E\ is low, the FIFO is almost empty, based on the offset programmed into the FIFO. The default offset at reset is 63 from empty for SN74V215, and 127 from empty for SN74V225, SN74V235, (See Datasheet)", 18 ~{FL} (in) "Mode selection. In the single-device or width-expansion configuration, F\L\, together with W\X\I\ and R\X\I\, determines if the mode is standard mode or first-word fall-through (FWFT) mode, as well as whether the (See Datasheet)", 19 WCLK (in) "Write clock. When W\E\N\ is low, data is written into the FIFO on a low-to-high transition of WCLK if the FIFO is not full.", 20 ~{WEN} (in) "Write enable. When W\E\N\ is low, data is written into the FIFO on every low-to-high transition of WCLK. When W\E\N\ is high, the FIFO holds the previous data. Data is not written into the FIFO if F\F\ is low.", 21 ~{WXI} (in) "Width expansion. In the single-device or width-expansion configuration, W\X\I\, together with F\L\ and R\X\I\, determines if the mode is standard mode or FWFT mode, as well as whether the P\A\E\/P\A\F\ flags are synchronous (See Datasheet)", 23 ~{PAF} (out) "Programable almost-full flag. When P\A\F\ is low, the FIFO is almost full, based on the offset programmed into the FIFO. The default offset at reset is 63 from full for SN74V215, and 127 from full for SN74V225, SN74V235, and (See Datasheet)", 24 ~{RXI} (in) "Read expansion. In the single-device or width-expansion configuration, R\X\I\, together with F\L\ and W\X\I\, determines if the mode is standard mode or FWFT mode, as well as whether the P\A\E\/P\A\F\ flags are synchronous (See Datasheet)", 25 ~{FF}/~{IR} (out) "Memory-full/space-available flag. In the standard mode, the F\F\ function is selected. F\F\ indicates whether the FIFO memory is full. In the FWFT mode, the I\R\ function is selected. I\R\ indicates whether there is space (See Datasheet)", 26 ~{WXO}/~{HF} (out) "Half-full flag. In the single-device or width-expansion configuration, the device is more than half full when H\F\ is low. In the depth-expansion configuration, a pulse is sent from W\X\O\ to W\X\I\ of the next device when (See Datasheet)", 27 ~{RXO} (out) "Last-location-read flag. In the depth-expansion configuration, a pulse is sent from R\X\O\ to R\X\I\ of the next device when the last location in the FIFO is read.", 54 ~{EF}/~{OR} (out) "Memory-empty/valid-data-available flag. In the standard mode, the E\F\ function is selected. E\F\ indicates whether the FIFO memory is empty. In FWFT mode, the O\R\ function is selected. O\R\ indicates whether there is valid (See Datasheet)", 57 ~{RS} (in) "Reset. When R\S\ is set low, internal read and write pointers are set to the first location of the RAM array, F\F\ and P\A\F\ go high, and P\A\E\ and E\F\ go low. A reset is required before an initial write after power up", 58 ~{OE} (in) "Output enable. When O\E\ is low, the data output bus is active. If O\E\ is high, the output data bus is in the high-impedance state.", 59 ~{LD} (in) "Read/write control. When L\D\ is low, data on the inputs D0-D11 is written to the offset and depth registers on the low-to-high transition of the WCLK, when W\E\N\ is low. When L\D\ is low, data on the outputs Q0-Q11 is read (See Datasheet)", 60 ~{REN} (in) "Read enable. When R\E\N\ is low, data is read from the FIFO on every low-to-high transition of RCLK. When R\E\N\ is high, the output register holds the previous data. Data is not read from the FIFO if E\F\ is low.", 61 RCLK (in) "Read clock. When R\E\N\ is low, data is read from the FIFO on a low-to-high transition of RCLK, if the FIFO is not empty"
part C pins: 22 VCC (power) "Supply voltage. +3.3-V power-supply pins.", 30 GND (power) "Ground", 33 VCC (power) "Supply voltage. +3.3-V power-supply pins.", 35 GND (power) "Ground", 40 GND (power) "Ground", 43 VCC (power) "Supply voltage. +3.3-V power-supply pins.", 46 GND (power) "Ground", 49 VCC (power) "Supply voltage. +3.3-V power-supply pins.", 51 GND (power) "Ground", 55 GND (power) "Ground", 56 VCC (power) "Supply voltage. +3.3-V power-supply pins.", 62 GND (power) "Ground"